# EAGLE library part DURACLIK-06 (library BMC components)
MOLEX DuraClik Wire-to-Board Header, Single Row, Right Angle, 6 Circuits Drawing: 5023520600_sd.pdf <http://www.molex.com/pdm_docs/sd/5023520600_sd.pdf> Information: 502352-0600 <http://www.molex.com/molex/products/datasheet.jsp?part=active/5023520600_PCB_HEADERS.xml>
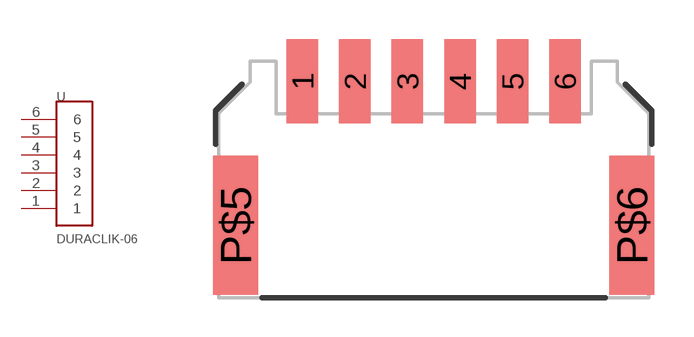
[diagram p5: symbol with the pads of DURACLIK-06; footprint DURACLIK-06]

Designator prefix -

## DURACLIK-06  [DURACLIK-06]
1  1
2  2
3  3
4  4
5  5
6  6

## Footprint DURACLIK-06 (pad centres in mm)
smd 1.2 x 3.2: 1 -5,8.23; 2 -3,8.23; 3 -1,8.23; 4 1,8.23; 5 3,8.23; 6 5,8.23
smd 1.7 x 5.3: P$5 -7.55,2.75; P$6 7.55,2.75